# Altium integrated library TI_Logic_Flip-Flop,Latch,Register.IntLib: 2598 symbols (part 26 of 122)
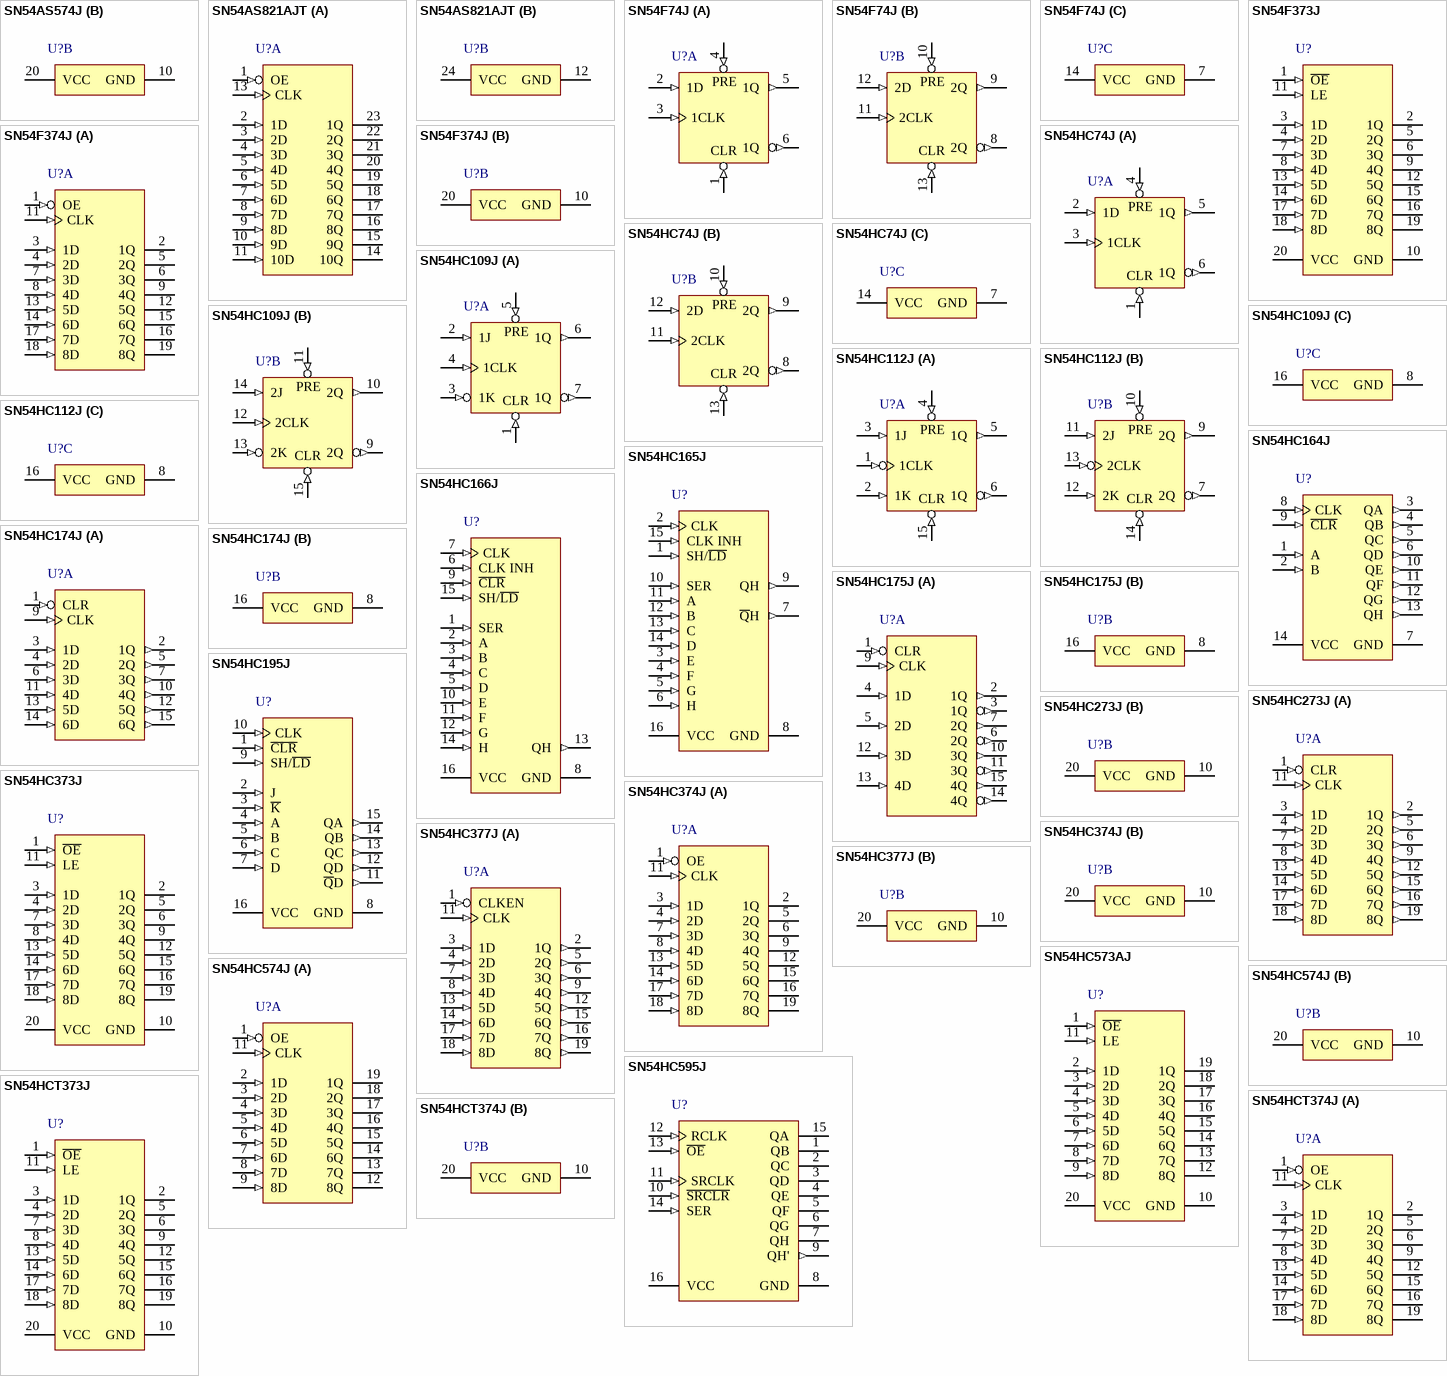
[diagram p164: symbols SN54AS574J to SN54HCT374J]

## SN54HC165J
designator U?
Parallel-Load 8-Bit Shift Registers, J0016A, TUBE; Generic Part Number: SN54HC165; Manufacturer: Texas Instruments; PartNumber: SN54HC165J; Technology Family: HC; VCC(Min)(V): 2; VCC(Max)(V): 6; F @ Nom Voltage(Max)(Mhz): 28; ICC @ Nom Voltage(Max)(mA): 0.08; tpd @ Nom Voltage(Max)(ns): 38; Output Drive (IOL/IOH)(Max)(mA): 5.2/-5.2; Input Type: CMOS; 3-State Output: No; Rating: Military; DatasheetVersion: SCLS116G; PackageReference: J0016A; Voltage(Nom)(V): 6; Output Type: CMOS; Operating Temperature Range(C): -55 to 125; ComponentLink1Description: Manufacturer URL; ComponentLink1URL: http://www.ti.com/; ComponentLink2Description: Datasheet; ComponentLink2URL: http://www.ti.com/lit/ds/symlink/sn54hc165.pdf; ComponentLink3Description: Package Specification; ComponentLink3URL: http://www.ti.com/lit/ml/mcer002d/mcer002d.pdf
footprint J0016A (DIP, 16-Leads, Body 21.35x7.2mm, Pitch 2.54mm)
pins: 1 SH/~{LD} (in), 2 CLK (in), 3 E (in), 4 F (in), 5 G (in), 6 H (in), 7 ~{Q}H (out), 8 GND (power), 9 QH (out), 10 SER (in), 11 A (in), 12 B (in), 13 C (in), 14 D (in), 15 CLK INH (in), 16 VCC (power)

## SN54HC166J
designator U?
Parallel-Load 8-Bit Shift Registers, J0016A, TUBE; Generic Part Number: SN54HC166; Manufacturer: Texas Instruments; PartNumber: SN54HC166J; Technology Family: HC; VCC(Min)(V): 2; VCC(Max)(V): 6; F @ Nom Voltage(Max)(Mhz): 28; ICC @ Nom Voltage(Max)(mA): 0.08; tpd @ Nom Voltage(Max)(ns): 32; Output Drive (IOL/IOH)(Max)(mA): 5.2/-5.2; Input Type: CMOS; 3-State Output: No; Rating: Military; DatasheetVersion: SCLS117D; PackageReference: J0016A; Voltage(Nom)(V): 6; Output Type: CMOS; Operating Temperature Range(C): -55 to 125; ComponentLink1Description: Manufacturer URL; ComponentLink1URL: http://www.ti.com/; ComponentLink2Description: Datasheet; ComponentLink2URL: http://www.ti.com/lit/ds/symlink/sn54hc166.pdf; ComponentLink3Description: Package Specification; ComponentLink3URL: http://www.ti.com/lit/ml/mcer002d/mcer002d.pdf
footprint J0016A (DIP, 16-Leads, Body 21.35x7.2mm, Pitch 2.54mm)
pins: 1 SER (in), 2 A (in), 3 B (in), 4 C (in), 5 D (in), 6 CLK INH (in), 7 CLK (in), 8 GND (power), 9 ~{CLR} (in), 10 E (in), 11 F (in), 12 G (in), 13 QH (out), 14 H (in), 15 SH/~{LD} (in), 16 VCC (power)

## SN54HC174J
designator U?
Hex D-type Flip-Flops With Clear, J0016A, TUBE; Generic Part Number: SN54HC174; Manufacturer: Texas Instruments; PartNumber: SN54HC174J; VCC(Min)(V): 2; VCC(Max)(V): 6; Output Type: CMOS; Output: 2S; ICC @ Nom Voltage(Max)(mA): 0.08; F @ Nom Voltage(Max)(Mhz): 28; Rating: Military; Technology Family: HC; Voltage(Nom)(V): 3.3,5; Schmitt Trigger: No; Output Drive (IOL/IOH)(Max)(mA): 5.2/-5.2; Output Logic: Non-inverted; tpd @ Nom Voltage(Max)(ns): 34; DatasheetVersion: SCLS119D; PackageReference: J0016A; Input Type: CMOS; Bits(#): 6; Operating Temperature Range(C): -55 to 125; 3-State Output: No; ComponentLink1Description: Manufacturer URL; ComponentLink1URL: http://www.ti.com/; ComponentLink2Description: Datasheet; ComponentLink2URL: http://www.ti.com/lit/ds/symlink/sn54hc174.pdf; ComponentLink3Description: Package Specification; ComponentLink3URL: http://www.ti.com/lit/ml/mcer002d/mcer002d.pdf
footprint J0016A (DIP, 16-Leads, Body 21.35x7.2mm, Pitch 2.54mm)
part A pins: 1 CLR (in), 2 1Q (out), 3 1D (in), 4 2D (in), 5 2Q (out), 6 3D (in), 7 3Q (out), 9 CLK (in), 10 4Q (out), 11 4D (in), 12 5Q (out), 13 5D (in), 14 6D (in), 15 6Q (out)
part B pins: 8 GND (power), 16 VCC (power)

## SN54HC175J
designator U?
Quadruple D-type Flip-Flops With Clear, J0016A, TUBE; Generic Part Number: SN54HC175; Manufacturer: Texas Instruments; PartNumber: SN54HC175J; VCC(Min)(V): 2; VCC(Max)(V): 6; Output Type: CMOS; Output: 2S; ICC @ Nom Voltage(Max)(mA): 0.08; Bits(#): 4; F @ Nom Voltage(Max)(Mhz): 28; Rating: Military; Technology Family: HC; Voltage(Nom)(V): 3.3,5; Schmitt Trigger: No; Output Drive (IOL/IOH)(Max)(mA): 5.2/-5.2; Output Logic: Inverted,Non-inverted; tpd @ Nom Voltage(Max)(ns): 32; DatasheetVersion: SCLS299D; PackageReference: J0016A; Input Type: CMOS; Operating Temperature Range(C): -55 to 125; 3-State Output: No; ComponentLink1Description: Manufacturer URL; ComponentLink1URL: http://www.ti.com/; ComponentLink2Description: Datasheet; ComponentLink2URL: http://www.ti.com/lit/ds/symlink/sn54hc175.pdf; ComponentLink3Description: Package Specification; ComponentLink3URL: http://www.ti.com/lit/ml/mcer002d/mcer002d.pdf
footprint J0016A (DIP, 16-Leads, Body 21.35x7.2mm, Pitch 2.54mm)
part A pins: 1 CLR (in), 2 1Q (out), 3 1Q (out), 4 1D (in), 5 2D (in), 6 2Q (out), 7 2Q (out), 9 CLK (in), 10 3Q (out), 11 3Q (out), 12 3D (in), 13 4D (in), 14 4Q (out), 15 4Q (out)
part B pins: 8 GND (power), 16 VCC (power)

## SN54HC195J
designator U?
4-Bit Parallel-Access Shift Registers, J0016A, TUBE; Generic Part Number: SN54HC195; Manufacturer: Texas Instruments; PartNumber: SN54HC195J; Technology Family: HC; Rating: Military; DatasheetVersion: SCLS124A; PackageReference: J0016A; Operating Temperature Range(C): -55 to 125; ComponentLink1Description: Manufacturer URL; ComponentLink1URL: http://www.ti.com/; ComponentLink2Description: Datasheet; ComponentLink2URL: http://www.ti.com/lit/ds/symlink/sn54hc195.pdf; ComponentLink3Description: Package Specification; ComponentLink3URL: http://www.ti.com/lit/ml/mcer002d/mcer002d.pdf
footprint J0016A (DIP, 16-Leads, Body 21.35x7.2mm, Pitch 2.54mm)
pins: 1 ~{CLR} (in), 2 J (in), 3 ~{K} (in), 4 A (in), 5 B (in), 6 C (in), 7 D (in), 8 GND (power), 9 SH/~{LD} (in), 10 CLK (in), 11 ~{Q}D (out), 12 QD (out), 13 QC (out), 14 QB (out), 15 QA (out), 16 VCC (power)

## SN54HC273J
designator U?
Octal D-type Flip-Flops With Clear, J0020A, TUBE; Generic Part Number: SN54HC273; Manufacturer: Texas Instruments; PartNumber: SN54HC273J; VCC(Min)(V): 2; VCC(Max)(V): 6; Output Type: CMOS; Output: 2S; ICC @ Nom Voltage(Max)(mA): 0.08; Bits(#): 8; F @ Nom Voltage(Max)(Mhz): 28; Rating: Military; Technology Family: HC; Voltage(Nom)(V): 3.3,5; Schmitt Trigger: No; Output Drive (IOL/IOH)(Max)(mA): 5.2/-5.2; Output Logic: Non-inverted; tpd @ Nom Voltage(Max)(ns): 34; DatasheetVersion: SCLS136D; PackageReference: J0020A; Input Type: CMOS; Operating Temperature Range(C): -55 to 125; 3-State Output: No; ComponentLink1Description: Manufacturer URL; ComponentLink1URL: http://www.ti.com/; ComponentLink2Description: Datasheet; ComponentLink2URL: http://www.ti.com/lit/ds/symlink/sn54hc273.pdf; ComponentLink3Description: Package Specification; ComponentLink3URL: http://www.ti.com/lit/ml/mcer002d/mcer002d.pdf
footprint J0020A (DIP, 20-Leads, Body 26.9x7.2mm, Pitch 2.54mm)
part A pins: 1 CLR (in) "Clear Pin", 2 1Q (out) "1Q Output", 3 1D (in) "1D Input", 4 2D (in) "2D Input", 5 2Q (out) "2Q Output", 6 3Q (out) "3Q Output", 7 3D (in) "3D Input", 8 4D (in) "4D Input", 9 4Q (out) "4Q Output", 11 CLK (in) "Clock Pin", 12 5Q (out) "5Q Output", 13 5D (in) "5D Input", 14 6D (in) "6D Input", 15 6Q (out) "6Q Output", 16 7Q (out) "7Q Output", 17 7D (in) "7D Input", 18 8D (in) "8D Input", 19 8Q (out) "8Q Output"
part B pins: 10 GND (power) "Ground Pin", 20 VCC (power) "Power Pin"

## SN54HC373J
designator U?
Octal D-type Transparent Latches With 3-State Outputs, J0020A, TUBE; Generic Part Number: SN54HC373; Manufacturer: Texas Instruments; PartNumber: SN54HC373J; VCC(Min)(V): 2; VCC(Max)(V): 6; Output Type: CMOS; Logic: True; ICC @ Nom Voltage(Max)(mA): 0.08; Bits(#): 8; F @ Nom Voltage(Max)(Mhz): 28; Rating: Military; Technology Family: HC; Schmitt Trigger: No; Output Drive (IOL/IOH)(Max)(mA): 7.8/-7.8; Output Logic: Non-inverted; 3-State Output: Yes; tpd @ Nom Voltage(Max)(ns): 32; DatasheetVersion: SCLS140D; PackageReference: J0020A; Input Type: CMOS; Operating Temperature Range(C): -55 to 125; ComponentLink1Description: Manufacturer URL; ComponentLink1URL: http://www.ti.com/; ComponentLink2Description: Datasheet; ComponentLink2URL: http://www.ti.com/lit/ds/symlink/sn54hc373.pdf; ComponentLink3Description: Package Specification; ComponentLink3URL: http://www.ti.com/lit/ml/mcer002d/mcer002d.pdf
footprint J0020A (DIP, 20-Leads, Body 26.9x7.2mm, Pitch 2.54mm)
pins: 1 ~{OE} (in) "Output Enable", 2 1Q (hiz) "1Q Output", 3 1D (in) "1D Input", 4 2D (in) "2D Input", 5 2Q (hiz) "2Q Output", 6 3Q (hiz) "3Q Output", 7 3D (in) "3D Input", 8 4D (in) "4D Input", 9 4Q (hiz) "4Q Output", 10 GND (power) "Ground Pin", 11 LE (in) "Latch Enable", 12 5Q (hiz) "5Q Output", 13 5D (in) "5D Input", 14 6D (in) "6D Input", 15 6Q (hiz) "6Q Output", 16 7Q (hiz) "7Q Output", 17 7D (in) "7D Input", 18 8D (in) "8D Input", 19 8Q (hiz) "8Q Output", 20 VCC (power) "Power Pin"

## SN54HC374J
designator U?
Octal D-type Edge-Triggered Flip-Flops With 3-State Outputs, J0020A, TUBE; Generic Part Number: SN54HC374; Manufacturer: Texas Instruments; PartNumber: SN54HC374J; VCC(Min)(V): 2; VCC(Max)(V): 6; Output Type: CMOS; ICC @ Nom Voltage(Max)(mA): 0.08; Bits(#): 8; F @ Nom Voltage(Max)(Mhz): 28; Rating: Military; Technology Family: HC; Voltage(Nom)(V): 3.3,5; Schmitt Trigger: No; Output Drive (IOL/IOH)(Max)(mA): 7.8/-7.8; Output Logic: Non-inverted; 3-State Output: Yes; tpd @ Nom Voltage(Max)(ns): 38; DatasheetVersion: SCLS141E; PackageReference: J0020A; Input Type: CMOS; Operating Temperature Range(C): -55 to 125; ComponentLink1Description: Manufacturer URL; ComponentLink1URL: http://www.ti.com/; ComponentLink2Description: Datasheet; ComponentLink2URL: http://www.ti.com/lit/ds/symlink/sn54hc374.pdf; ComponentLink3Description: Package Specification; ComponentLink3URL: http://www.ti.com/lit/ml/mcer002d/mcer002d.pdf
footprint J0020A (DIP, 20-Leads, Body 26.9x7.2mm, Pitch 2.54mm)
part A pins: 1 OE (in), 2 1Q (hiz), 3 1D (in), 4 2D (in), 5 2Q (hiz), 6 3Q (hiz), 7 3D (in), 8 4D (in), 9 4Q (hiz), 11 CLK (in), 12 5Q (hiz), 13 5D (in), 14 6D (in), 15 6Q (hiz), 16 7Q (hiz), 17 7D (in), 18 8D (in), 19 8Q (hiz)
part B pins: 10 GND (power), 20 VCC (power)

## SN54HC377J
designator U?
Octal, Hex, And Quad D-type Flip-Flops With Clock Enable, J0020A, TUBE; Generic Part Number: SN54HC377; Manufacturer: Texas Instruments; PartNumber: SN54HC377J; VCC(Min)(V): 2; VCC(Max)(V): 6; Output Type: CMOS; Output: 2S; ICC @ Nom Voltage(Max)(mA): 0.08; Bits(#): 8; F @ Nom Voltage(Max)(Mhz): 28; Rating: Military; Technology Family: HC; Voltage(Nom)(V): 3.3,5; Schmitt Trigger: No; Output Drive (IOL/IOH)(Max)(mA): 5.2/-5.2; Output Logic: Non-inverted; tpd @ Nom Voltage(Max)(ns): 34; DatasheetVersion: SCLS307B; PackageReference: J0020A; Input Type: CMOS; Operating Temperature Range(C): -55 to 125; 3-State Output: No; ComponentLink1Description: Manufacturer URL; ComponentLink1URL: http://www.ti.com/; ComponentLink2Description: Datasheet; ComponentLink2URL: http://www.ti.com/lit/ds/symlink/sn54hc377.pdf; ComponentLink3Description: Package Specification; ComponentLink3URL: http://www.ti.com/lit/ml/mcer002d/mcer002d.pdf
footprint J0020A (DIP, 20-Leads, Body 26.9x7.2mm, Pitch 2.54mm)
part A pins: 1 CLKEN (in), 2 1Q (out), 3 1D (in), 4 2D (in), 5 2Q (out), 6 3Q (out), 7 3D (in), 8 4D (in), 9 4Q (out), 11 CLK (in), 12 5Q (out), 13 5D (in), 14 6D (in), 15 6Q (out), 16 7Q (out), 17 7D (in), 18 8D (in), 19 8Q (out)
part B pins: 10 GND (power), 20 VCC (power)

## SN54HC573AJ
designator U?
Octal D-type Transparent Latches With 3-State Outputs, J0020A, TUBE; Generic Part Number: SN54HC573A; Manufacturer: Texas Instruments; PartNumber: SN54HC573AJ; VCC(Min)(V): 2; VCC(Max)(V): 6; Output Type: CMOS; Logic: True; ICC @ Nom Voltage(Max)(mA): 0.08; Bits(#): 8; F @ Nom Voltage(Max)(Mhz): 28; Rating: Military; Technology Family: HC; Schmitt Trigger: No; Output Drive (IOL/IOH)(Max)(mA): 7.8/-7.8; Output Logic: Non-inverted; 3-State Output: Yes; tpd @ Nom Voltage(Max)(ns): 38; DatasheetVersion: SCLS147E; PackageReference: J0020A; Input Type: CMOS; Operating Temperature Range(C): -55 to 125; ComponentLink1Description: Manufacturer URL; ComponentLink1URL: http://www.ti.com/; ComponentLink2Description: Datasheet; ComponentLink2URL: http://www.ti.com/lit/ds/symlink/sn54hc573a.pdf; ComponentLink3Description: Package Specification; ComponentLink3URL: http://www.ti.com/lit/ml/mcer002d/mcer002d.pdf
footprint J0020A (DIP, 20-Leads, Body 26.9x7.2mm, Pitch 2.54mm)
pins: 1 ~{OE} (in), 2 1D (in), 3 2D (in), 4 3D (in), 5 4D (in), 6 5D (in), 7 6D (in), 8 7D (in), 9 8D (in), 10 GND (power), 11 LE (in), 12 8Q (hiz), 13 7Q (hiz), 14 6Q (hiz), 15 5Q (hiz), 16 4Q (hiz), 17 3Q (hiz), 18 2Q (hiz), 19 1Q (hiz), 20 VCC (power)

## SN54HC574J
designator U?
Octal D-type Edge-Triggered Flip-Flops With 3-State Outputs, J0020A, TUBE; Generic Part Number: SN54HC574; Manufacturer: Texas Instruments; PartNumber: SN54HC574J; VCC(Min)(V): 2; VCC(Max)(V): 6; Output Type: CMOS; ICC @ Nom Voltage(Max)(mA): 0.08; Bits(#): 8; F @ Nom Voltage(Max)(Mhz): 28; Rating: Military; Technology Family: HC; Voltage(Nom)(V): 3.3,5; Schmitt Trigger: No; Output Drive (IOL/IOH)(Max)(mA): 7.8/-7.8; Output Logic: Non-inverted; 3-State Output: Yes; tpd @ Nom Voltage(Max)(ns): 38; DatasheetVersion: SCLS148F; PackageReference: J0020A; Input Type: CMOS; Operating Temperature Range(C): -55 to 125; ComponentLink1Description: Manufacturer URL; ComponentLink1URL: http://www.ti.com/; ComponentLink2Description: Datasheet; ComponentLink2URL: http://www.ti.com/lit/ds/symlink/sn54hc574.pdf; ComponentLink3Description: Package Specification; ComponentLink3URL: http://www.ti.com/lit/ml/mcer002d/mcer002d.pdf
footprint J0020A (DIP, 20-Leads, Body 26.9x7.2mm, Pitch 2.54mm)
part A pins: 1 OE (in), 2 1D (in), 3 2D (in), 4 3D (in), 5 4D (in), 6 5D (in), 7 6D (in), 8 7D (in), 9 8D (in), 11 CLK (in), 12 8Q (hiz), 13 7Q (hiz), 14 6Q (hiz), 15 5Q (hiz), 16 4Q (hiz), 17 3Q (hiz), 18 2Q (hiz), 19 1Q (hiz)
part B pins: 10 GND (power), 20 VCC (power)

## SN54HC595J
designator U?
8-Bit Shift Registers With 3-State Output Registers, J0016A, TUBE; Generic Part Number: SN54HC595; Manufacturer: Texas Instruments; PartNumber: SN54HC595J; Technology Family: HC; VCC(Min)(V): 2; VCC(Max)(V): 6; F @ Nom Voltage(Max)(Mhz): 28; ICC @ Nom Voltage(Max)(mA): 0.08; tpd @ Nom Voltage(Max)(ns): 34; Output Drive (IOL/IOH)(Max)(mA): 7.8/-7.8; Input Type: CMOS; 3-State Output: Yes; Rating: Military; DatasheetVersion: SCLS041H; PackageReference: J0016A; Voltage(Nom)(V): 6; Output Type: CMOS; Operating Temperature Range(C): -55 to 125; ComponentLink1Description: Manufacturer URL; ComponentLink1URL: http://www.ti.com/; ComponentLink2Description: Datasheet; ComponentLink2URL: http://www.ti.com/lit/ds/symlink/sn54hc595.pdf; ComponentLink3Description: Package Specification; ComponentLink3URL: http://www.ti.com/lit/ml/mcer002d/mcer002d.pdf
footprint J0016A (DIP, 16-Leads, Body 21.35x7.2mm, Pitch 2.54mm)
pins: 1 QB (hiz) "QB Output", 2 QC (hiz) "QC Output", 3 QD (hiz) "QD Output", 4 QE (hiz) "QE Output", 5 QF (hiz) "QF Output", 6 QG (hiz) "QG Output", 7 QH (hiz) "QH Output", 8 GND (power) "Ground Pin", 9 QH' (out) "QH' Output", 10 ~{SRCLR} (in) "S\R\C\L\R\ Input", 11 SRCLK (in) "SRCLK Input", 12 RCLK (in) "RCLK Input", 13 ~{OE} (in) "Output Enable Pin", 14 SER (in) "SER Input", 15 QA (hiz) "QA Output", 16 VCC (power) "Power Pin"

## SN54HCT373J
designator U?
Octal D-type Transparent Latches With 3-State Outputs, J0020A, TUBE; Generic Part Number: SN54HCT373; Manufacturer: Texas Instruments; PartNumber: SN54HCT373J; VCC(Min)(V): 4.5; VCC(Max)(V): 5.5; Output Type: CMOS; Logic: True; ICC @ Nom Voltage(Max)(mA): 0.08; Input Type: TTL; Bits(#): 8; F @ Nom Voltage(Max)(Mhz): 25; Rating: Military; Technology Family: HCT; Schmitt Trigger: No; Output Drive (IOL/IOH)(Max)(mA): 6/-6; Output Logic: Non-inverted; 3-State Output: Yes; tpd @ Nom Voltage(Max)(ns): 40; DatasheetVersion: SCLS009D; PackageReference: J0020A; Operating Temperature Range(C): -55 to 125; ComponentLink1Description: Manufacturer URL; ComponentLink1URL: http://www.ti.com/; ComponentLink2Description: Datasheet; ComponentLink2URL: http://www.ti.com/lit/ds/symlink/sn54hct373.pdf; ComponentLink3Description: Package Specification; ComponentLink3URL: http://www.ti.com/lit/ml/mcer002d/mcer002d.pdf
footprint J0020A (DIP, 20-Leads, Body 26.9x7.2mm, Pitch 2.54mm)
pins: 1 ~{OE} (in) "Output Enable", 2 1Q (hiz) "1Q Output", 3 1D (in) "1D Input", 4 2D (in) "2D Input", 5 2Q (hiz) "2Q Output", 6 3Q (hiz) "3Q Output", 7 3D (in) "3D Input", 8 4D (in) "4D Input", 9 4Q (hiz) "4Q Output", 10 GND (power) "Ground Pin", 11 LE (in) "Latch Enable", 12 5Q (hiz) "5Q Output", 13 5D (in) "5D Input", 14 6D (in) "6D Input", 15 6Q (hiz) "6Q Output", 16 7Q (hiz) "7Q Output", 17 7D (in) "7D Input", 18 8D (in) "8D Input", 19 8Q (hiz) "8Q Output", 20 VCC (power) "Power Pin"

## SN54HCT374J
designator U?
Octal D-type Edge-Triggered Flip-Flops with 3-State Outputs, J0020A, TUBE; Generic Part Number: SN54HCT374; Manufacturer: Texas Instruments; PartNumber: SN54HCT374J; VCC(Min)(V): 4.5; VCC(Max)(V): 5.5; Output Type: CMOS; ICC @ Nom Voltage(Max)(mA): 0.08; Input Type: TTL; Bits(#): 8; F @ Nom Voltage(Max)(Mhz): 25; Rating: Military; Technology Family: HCT; Schmitt Trigger: No; Output Drive (IOL/IOH)(Max)(mA): 6/-6; Output Logic: Non-inverted; 3-State Output: Yes; tpd @ Nom Voltage(Max)(ns): 41; DatasheetVersion: SCLS005D; PackageReference: J0020A; Operating Temperature Range(C): -55 to 125; ComponentLink1Description: Manufacturer URL; ComponentLink1URL: http://www.ti.com/; ComponentLink2Description: Datasheet; ComponentLink2URL: http://www.ti.com/lit/ds/symlink/sn54hct374.pdf; ComponentLink3Description: Package Specification; ComponentLink3URL: http://www.ti.com/lit/ml/mcer002d/mcer002d.pdf
footprint J0020A (DIP, 20-Leads, Body 26.9x7.2mm, Pitch 2.54mm)
part A pins: 1 OE (in), 2 1Q (hiz), 3 1D (in), 4 2D (in), 5 2Q (hiz), 6 3Q (hiz), 7 3D (in), 8 4D (in), 9 4Q (hiz), 11 CLK (in), 12 5Q (hiz), 13 5D (in), 14 6D (in), 15 6Q (hiz), 16 7Q (hiz), 17 7D (in), 18 8D (in), 19 8Q (hiz)
part B pins: 10 GND (power), 20 VCC (power)

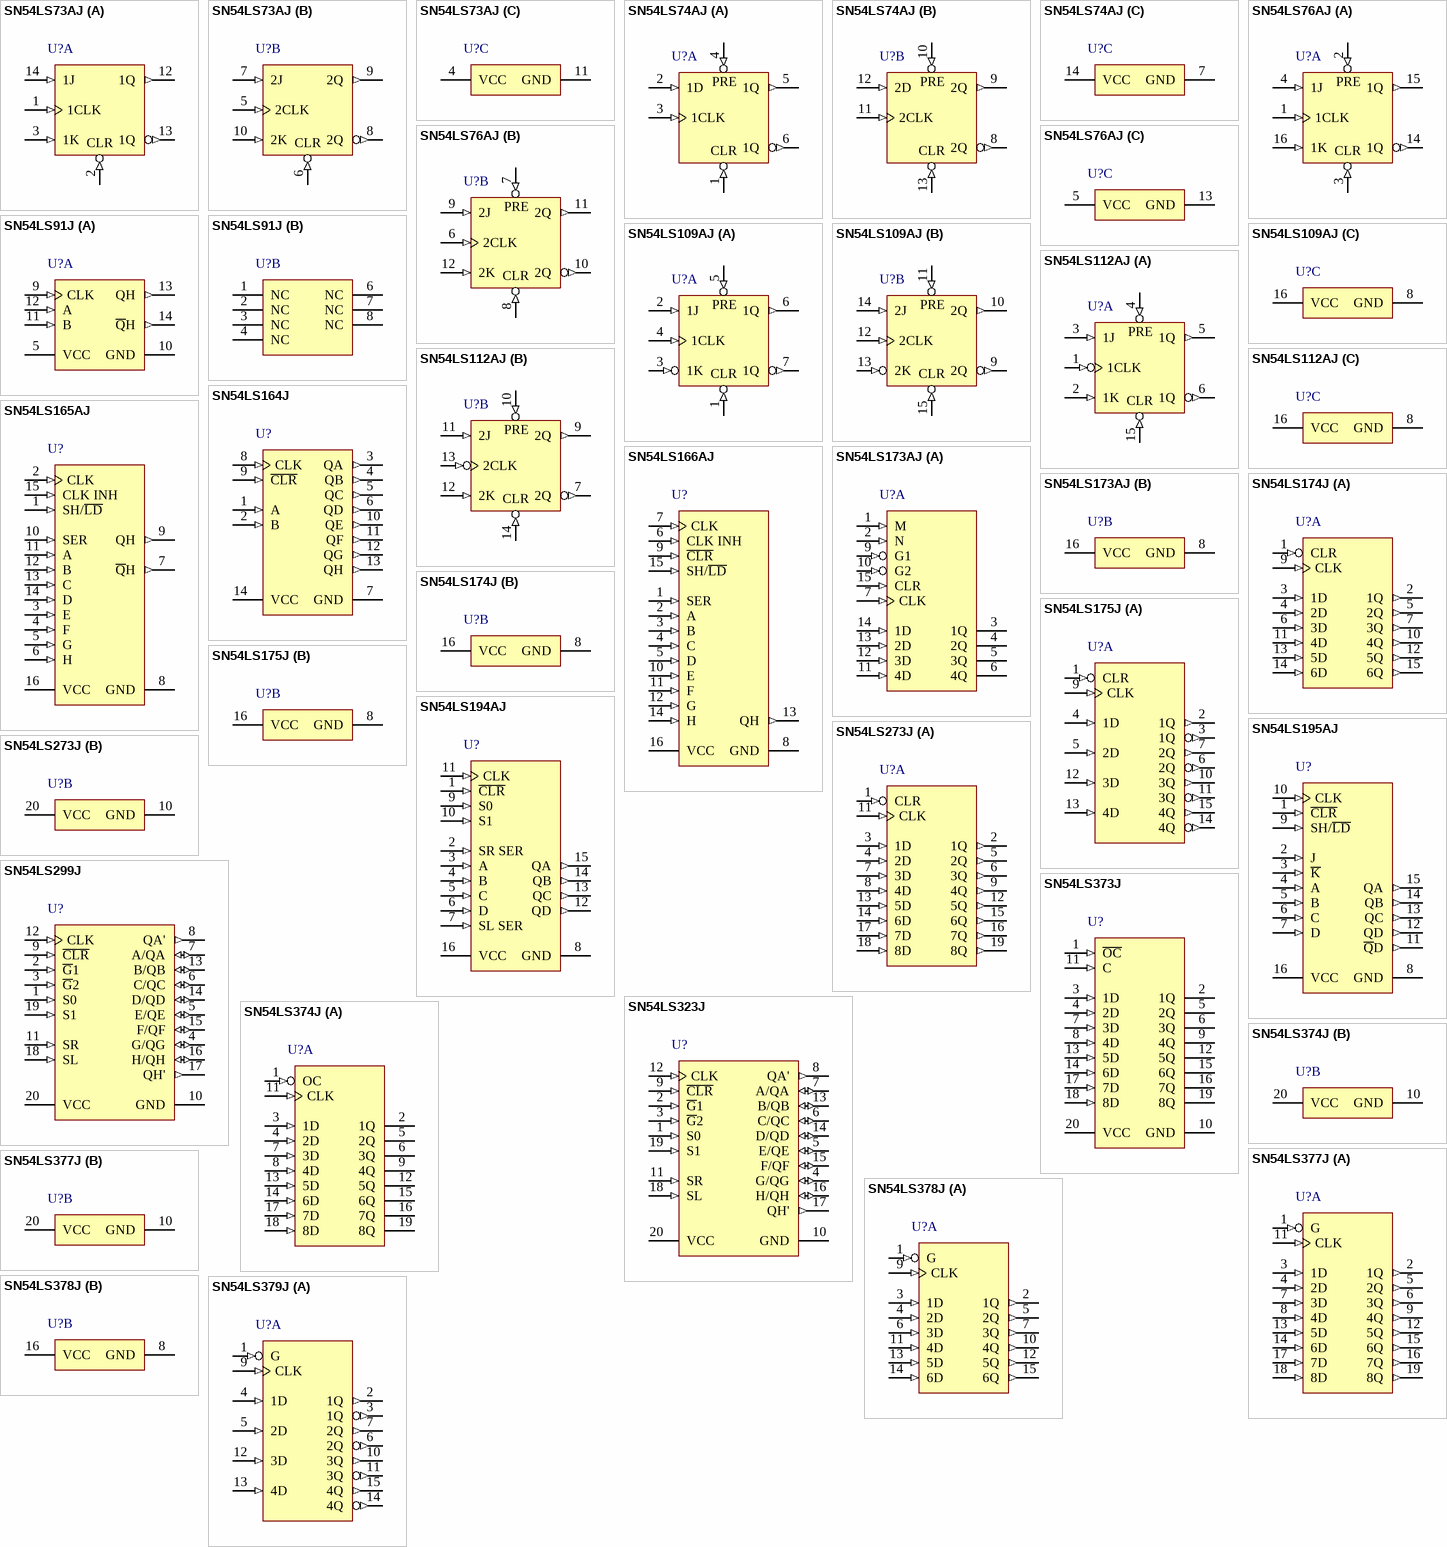
[diagram p38: symbols SN54LS73AJ to SN54LS379J]

## SN54LS73AJ
designator U?
Dual J-K Flip-Flops With Clear and 3-state Outputs, J0014A, TUBE; Generic Part Number: SN54LS73A; Manufacturer: Texas Instruments; PartNumber: SN54LS73AJ; Output Type: TTL; Output: 2S; Bits(#): 2; Rating: Military; Technology Family: LS; Schmitt Trigger: No; DatasheetVersion: SDLS118; PackageReference: J0014A; Input Type: TTL; Operating Temperature Range(C): -55 to 125; ComponentLink1Description: Manufacturer URL; ComponentLink1URL: http://www.ti.com/; ComponentLink2Description: Datasheet; ComponentLink2URL: http://www.ti.com/lit/ds/symlink/sn54ls73a.pdf; ComponentLink3Description: Package Specification; ComponentLink3URL: http://www.ti.com/lit/ml/mcer002d/mcer002d.pdf
footprint J0014A (DIP, 14-Leads, Body 19.95x7.2mm, Pitch 2.54mm)
part A pins: 1 1CLK (in), 2 1~{CLR} (in), 3 1K (in), 12 1Q (out), 13 1Q (out), 14 1J (in)
part B pins: 5 2CLK (in), 6 2~{CLR} (in), 7 2J (in), 8 2Q (out), 9 2Q (out), 10 2K (in)
part C pins: 4 VCC (power), 11 GND (power)
part A text: CLR
part B text: CLR

## SN54LS74AJ
designator U?
Dual D-type Positive-Edge-Triggered Flip-Flops With Preset And Clear, J0014A, TUBE; Generic Part Number: SN54LS74A; Manufacturer: Texas Instruments; PartNumber: SN54LS74AJ; VCC(Min)(V): 4.75; VCC(Max)(V): 5.25; Output Type: TTL; Output: 3S; ICC @ Nom Voltage(Max)(mA): 8; Bits(#): 2; F @ Nom Voltage(Max)(Mhz): 35; Rating: Military; Technology Family: LS; Schmitt Trigger: No; Output Drive (IOL/IOH)(Max)(mA): 8/-0.4; Output Logic: Inverted,Non-inverted; tpd @ Nom Voltage(Max)(ns): 40; DatasheetVersion: SDLS119; PackageReference: J0014A; Input Type: TTL; Operating Temperature Range(C): -55 to 125; 3-State Output: No; ComponentLink1Description: Manufacturer URL; ComponentLink1URL: http://www.ti.com/; ComponentLink2Description: Datasheet; ComponentLink2URL: http://www.ti.com/lit/ds/symlink/sn54ls74a.pdf; ComponentLink3Description: Package Specification; ComponentLink3URL: http://www.ti.com/lit/ml/mcer002d/mcer002d.pdf
footprint J0014A (DIP, 14-Leads, Body 19.95x7.2mm, Pitch 2.54mm)
part A pins: 1 1~{CLR} (in), 2 1D (in), 3 1CLK (in), 4 1~{PRE} (in), 5 1Q (out), 6 1Q (out)
part B pins: 8 2Q (out), 9 2Q (out), 10 2~{PRE} (in), 11 2CLK (in), 12 2D (in), 13 2~{CLR} (in)
part C pins: 7 GND (power), 14 VCC (power)
part A text: PRE; CLR
part B text: PRE; CLR

## SN54LS76AJ
designator U?
Dual J-K Flip-Flops With Preset And Clear, J0016A, TUBE; Generic Part Number: SN54LS76A; Manufacturer: Texas Instruments; PartNumber: SN54LS76AJ; VCC(Min)(V): 4.5; VCC(Max)(V): 5.5; Output Type: TTL; Output: 2S; Bits(#): 2; Rating: Military; Technology Family: LS; Schmitt Trigger: No; DatasheetVersion: SDLS121; PackageReference: J0016A; Input Type: TTL; Operating Temperature Range(C): -55 to 125; ComponentLink1Description: Manufacturer URL; ComponentLink1URL: http://www.ti.com/; ComponentLink2Description: Datasheet; ComponentLink2URL: http://www.ti.com/lit/ds/symlink/sn54ls76a.pdf; ComponentLink3Description: Package Specification; ComponentLink3URL: http://www.ti.com/lit/ml/mcer002d/mcer002d.pdf
footprint J0016A (DIP, 16-Leads, Body 21.35x7.2mm, Pitch 2.54mm)
part A pins: 1 1CLK (in), 2 1~{PRE} (in), 3 1~{CLR} (in), 4 1J (in), 14 1Q (out), 15 1Q (out), 16 1K (in)
part B pins: 6 2CLK (in), 7 2~{PRE} (in), 8 2~{CLR} (in), 9 2J (in), 10 2Q (out), 11 2Q (out), 12 2K (in)
part C pins: 5 VCC (power), 13 GND (power)
part A text: PRE; CLR
part B text: PRE; CLR

## SN54LS91J
designator U?
8-Bit Shift Registers, J0014A, TUBE; Generic Part Number: SN54LS91; Manufacturer: Texas Instruments; PartNumber: SN54LS91J; Technology Family: LS; VCC(Min)(V): 4.5; VCC(Max)(V): 5.5; Output Type: TTL; Rating: Military; DatasheetVersion: SDLS126; PackageReference: J0014A; Operating Temperature Range(C): -55 to 125; ComponentLink1Description: Manufacturer URL; ComponentLink1URL: http://www.ti.com/; ComponentLink2Description: Datasheet; ComponentLink2URL: http://www.ti.com/lit/ds/symlink/sn54ls91.pdf; ComponentLink3Description: Package Specification; ComponentLink3URL: http://www.ti.com/lit/ml/mcer002d/mcer002d.pdf
footprint J0014A (DIP, 14-Leads, Body 19.95x7.2mm, Pitch 2.54mm)
part A pins: 5 VCC (power), 9 CLK (in), 10 GND (power), 11 B (in), 12 A (in), 13 QH (out), 14 ~{Q}H (out)
part B pins: 1 NC, 2 NC, 3 NC, 4 NC, 6 NC, 7 NC, 8 NC

## SN54LS109AJ
designator U?
Dual J-K Positive-Edge-Triggered Flip-Flops With Preset And Clear, J0016A, TUBE; Generic Part Number: SN54LS109A; Manufacturer: Texas Instruments; PartNumber: SN54LS109AJ; VCC(Min)(V): 4.5; VCC(Max)(V): 5.5; Output Type: TTL; Output: 2S; Bits(#): 2; Rating: Military; Technology Family: LS; Schmitt Trigger: No; DatasheetVersion: SDLS037; PackageReference: J0016A; Input Type: TTL; Operating Temperature Range(C): -55 to 125; ComponentLink1Description: Manufacturer URL; ComponentLink1URL: http://www.ti.com/; ComponentLink2Description: Datasheet; ComponentLink2URL: http://www.ti.com/lit/ds/symlink/sn54ls109a.pdf; ComponentLink3Description: Package Specification; ComponentLink3URL: http://www.ti.com/lit/ml/mcer002d/mcer002d.pdf
footprint J0016A (DIP, 16-Leads, Body 21.35x7.2mm, Pitch 2.54mm)
part A pins: 1 1~{CLR} (in), 2 1J (in), 3 1K (in), 4 1CLK (in), 5 1~{PRE} (in), 6 1Q (out), 7 1Q (out)
part B pins: 9 2Q (out), 10 2Q (out), 11 2~{PRE} (in), 12 2CLK (in), 13 2K (in), 14 2J (in), 15 2~{CLR} (in)
part C pins: 8 GND (power), 16 VCC (power)
part A text: PRE; CLR
part B text: PRE; CLR

## SN54LS112AJ
designator U?
Dual J-K Negative-Edge-Triggered Flip-Flops With Preset And Clear, J0016A, TUBE; Generic Part Number: SN54LS112A; Manufacturer: Texas Instruments; PartNumber: SN54LS112AJ; VCC(Min)(V): 4.5; VCC(Max)(V): 5.5; Output Type: TTL; Output: 2S; Bits(#): 2; Rating: Military; Technology Family: LS; Schmitt Trigger: No; DatasheetVersion: SDLS011; PackageReference: J0016A; Input Type: TTL; Operating Temperature Range(C): -55 to 125; ComponentLink1Description: Manufacturer URL; ComponentLink1URL: http://www.ti.com/; ComponentLink2Description: Datasheet; ComponentLink2URL: http://www.ti.com/lit/ds/symlink/sn54ls112a.pdf; ComponentLink3Description: Package Specification; ComponentLink3URL: http://www.ti.com/lit/ml/mcer002d/mcer002d.pdf
footprint J0016A (DIP, 16-Leads, Body 21.35x7.2mm, Pitch 2.54mm)
part A pins: 1 1CLK (in), 2 1K (in), 3 1J (in), 4 1~{PRE} (in), 5 1Q (out), 6 1Q (out), 15 1~{CLR} (in)
part B pins: 7 2Q (out), 9 2Q (out), 10 2~{PRE} (in), 11 2J (in), 12 2K (in), 13 2CLK (in), 14 2~{CLR} (in)
part C pins: 8 GND (power), 16 VCC (power)
part A text: PRE; CLR
part B text: PRE; CLR

## SN54LS164J
designator U?
8-Bit Parallel-Out Serial Shift Registers, J0014A, TUBE; Generic Part Number: SN54LS164; Manufacturer: Texas Instruments; PartNumber: SN54LS164J; Technology Family: LS; VCC(Min)(V): 4.75; VCC(Max)(V): 5.25; Voltage(Nom)(V): 5; F @ Nom Voltage(Max)(Mhz): 35; ICC @ Nom Voltage(Max)(mA): 27; tpd @ Nom Voltage(Max)(ns): 32; Output Drive (IOL/IOH)(Max)(mA): 7.8/-7.8; Input Type: TTL; 3-State Output: No; Rating: Military; PackageReference: J0014A; Output Type: TTL; Operating Temperature Range(C): -55 to 125; ComponentLink1Description: Manufacturer URL; ComponentLink1URL: http://www.ti.com/; ComponentLink2Description: Datasheet; ComponentLink2URL: http://www.ti.com/lit/ds/symlink/sn54ls164.pdf; ComponentLink3Description: Package Specification; ComponentLink3URL: http://www.ti.com/lit/ml/mcer002d/mcer002d.pdf
footprint J0014A (DIP, 14-Leads, Body 19.95x7.2mm, Pitch 2.54mm)
pins: 1 A (in) "Serial input A", 2 B (in) "Serial input B", 3 QA (out) "Output A", 4 QB (out) "Output B", 5 QC (out) "Output C", 6 QD (out) "Output D", 7 GND (power) "Ground pin", 8 CLK (in) "Storage clock", 9 ~{CLR} (in) "Storage clear", 10 QE (out) "Output E", 11 QF (out) "Output F", 12 QG (out) "Output G", 13 QH (out) "Output H", 14 VCC (power) "Power pin"

## SN54LS165AJ
designator U?
Parallel-Load 8-Bit Shift Registers, J0016A, TUBE; Generic Part Number: SN54LS165A; Manufacturer: Texas Instruments; PartNumber: SN54LS165AJ; Technology Family: LS; VCC(Min)(V): 4.75; VCC(Max)(V): 5.25; Voltage(Nom)(V): 5; F @ Nom Voltage(Max)(Mhz): 35; ICC @ Nom Voltage(Max)(mA): 30; tpd @ Nom Voltage(Max)(ns): 25; Output Drive (IOL/IOH)(Max)(mA): 8/-0.4; Input Type: TTL; 3-State Output: No; Rating: Military; DatasheetVersion: SDLS062D; PackageReference: J0016A; Output Type: TTL; Operating Temperature Range(C): -55 to 125; ComponentLink1Description: Manufacturer URL; ComponentLink1URL: http://www.ti.com/; ComponentLink2Description: Datasheet; ComponentLink2URL: http://www.ti.com/lit/ds/symlink/sn54ls165a.pdf; ComponentLink3Description: Package Specification; ComponentLink3URL: http://www.ti.com/lit/ml/mcer002d/mcer002d.pdf
footprint J0016A (DIP, 16-Leads, Body 21.35x7.2mm, Pitch 2.54mm)
pins: 1 SH/~{LD} (in), 2 CLK (in), 3 E (in), 4 F (in), 5 G (in), 6 H (in), 7 ~{Q}H (out), 8 GND (power), 9 QH (out), 10 SER (in), 11 A (in), 12 B (in), 13 C (in), 14 D (in), 15 CLK INH (in), 16 VCC (power)

## SN54LS166AJ
designator U?
Parallel-Load 8-Bit Shift Registers, J0016A, TUBE; Generic Part Number: SN54LS166A; Manufacturer: Texas Instruments; PartNumber: SN54LS166AJ; Technology Family: LS; VCC(Min)(V): 4.75; VCC(Max)(V): 5.25; Voltage(Nom)(V): 5; F @ Nom Voltage(Max)(Mhz): 35; ICC @ Nom Voltage(Max)(mA): 32; tpd @ Nom Voltage(Max)(ns): 25; Output Drive (IOL/IOH)(Max)(mA): 8/-0.4; Input Type: TTL; 3-State Output: No; Rating: Military; PackageReference: J0016A; Output Type: TTL; Operating Temperature Range(C): -55 to 125; ComponentLink1Description: Manufacturer URL; ComponentLink1URL: http://www.ti.com/; ComponentLink2Description: Datasheet; ComponentLink2URL: http://www.ti.com/lit/ds/symlink/sn54ls166a.pdf; ComponentLink3Description: Package Specification; ComponentLink3URL: http://www.ti.com/lit/ml/mcer002d/mcer002d.pdf
footprint J0016A (DIP, 16-Leads, Body 21.35x7.2mm, Pitch 2.54mm)
pins: 1 SER (in), 2 A (in), 3 B (in), 4 C (in), 5 D (in), 6 CLK INH (in), 7 CLK (in), 8 GND (power), 9 ~{CLR} (in), 10 E (in), 11 F (in), 12 G (in), 13 QH (out), 14 H (in), 15 SH/~{LD} (in), 16 VCC (power)

## SN54LS173AJ
designator U?
4-Bit D-type Registers with 3-State Outputs, J0016A, TUBE; Generic Part Number: SN54LS173A; Manufacturer: Texas Instruments; PartNumber: SN54LS173AJ; VCC(Min)(V): 4.75; VCC(Max)(V): 5.25; Output Type: TTL; Output: 3S; ICC @ Nom Voltage(Max)(mA): 24; Bits(#): 4; F @ Nom Voltage(Max)(Mhz): 35; Rating: Military; Technology Family: LS; Schmitt Trigger: No; Output Drive (IOL/IOH)(Max)(mA): 24/-2.6; Output Logic: Non-inverted; 3-State Output: Yes; tpd @ Nom Voltage(Max)(ns): 30; DatasheetVersion: SDLS067A; PackageReference: J0016A; Input Type: TTL; Operating Temperature Range(C): -55 to 125; ComponentLink1Description: Manufacturer URL; ComponentLink1URL: http://www.ti.com/; ComponentLink2Description: Datasheet; ComponentLink2URL: http://www.ti.com/lit/ds/symlink/sn54ls173a.pdf; ComponentLink3Description: Package Specification; ComponentLink3URL: http://www.ti.com/lit/ml/mcer002d/mcer002d.pdf
footprint J0016A (DIP, 16-Leads, Body 21.35x7.2mm, Pitch 2.54mm)
part A pins: 1 M (in), 2 N (in), 3 1Q (hiz), 4 2Q (hiz), 5 3Q (hiz), 6 4Q (hiz), 7 CLK (in), 9 G1 (in), 10 G2 (in), 11 4D (in), 12 3D (in), 13 2D (in), 14 1D (in), 15 CLR (in)
part B pins: 8 GND (power), 16 VCC (power)

## SN54LS174J
designator U?
Hex D-type Flip-Flops With Clear, J0016A, TUBE; Generic Part Number: SN54LS174; Manufacturer: Texas Instruments; PartNumber: SN54LS174J; VCC(Min)(V): 4.75; VCC(Max)(V): 5.25; Output Type: TTL; Output: 2S; ICC @ Nom Voltage(Max)(mA): 26; Bits(#): 6; F @ Nom Voltage(Max)(Mhz): 35; Rating: Military; Technology Family: LS; Schmitt Trigger: No; Output Drive (IOL/IOH)(Max)(mA): 8/-0.4; Output Logic: Inverted,Non-inverted; tpd @ Nom Voltage(Max)(ns): 30; DatasheetVersion: SDLS068A; PackageReference: J0016A; Input Type: TTL; Operating Temperature Range(C): -55 to 125; 3-State Output: No; ComponentLink1Description: Manufacturer URL; ComponentLink1URL: http://www.ti.com/; ComponentLink2Description: Datasheet; ComponentLink2URL: http://www.ti.com/lit/ds/symlink/sn54ls174.pdf; ComponentLink3Description: Package Specification; ComponentLink3URL: http://www.ti.com/lit/ml/mcer002d/mcer002d.pdf
footprint J0016A (DIP, 16-Leads, Body 21.35x7.2mm, Pitch 2.54mm)
part A pins: 1 CLR (in), 2 1Q (out), 3 1D (in), 4 2D (in), 5 2Q (out), 6 3D (in), 7 3Q (out), 9 CLK (in), 10 4Q (out), 11 4D (in), 12 5Q (out), 13 5D (in), 14 6D (in), 15 6Q (out)
part B pins: 8 GND (power), 16 VCC (power)

## SN54LS175J
designator U?
Quadruple D-type Flip-Flops With Clear, J0016A, TUBE; Generic Part Number: SN54LS175; Manufacturer: Texas Instruments; PartNumber: SN54LS175J; VCC(Min)(V): 4.75; VCC(Max)(V): 5.25; Output Type: TTL; Output: 2S; ICC @ Nom Voltage(Max)(mA): 18; Bits(#): 4; F @ Nom Voltage(Max)(Mhz): 35; Rating: Military; Technology Family: LS; Schmitt Trigger: No; Output Drive (IOL/IOH)(Max)(mA): 8/-0.4; Output Logic: Inverted,Non-inverted; tpd @ Nom Voltage(Max)(ns): 25; DatasheetVersion: SDLS068A; PackageReference: J0016A; Input Type: TTL; Operating Temperature Range(C): -55 to 125; 3-State Output: No; ComponentLink1Description: Manufacturer URL; ComponentLink1URL: http://www.ti.com/; ComponentLink2Description: Datasheet; ComponentLink2URL: http://www.ti.com/lit/ds/symlink/sn54ls175.pdf; ComponentLink3Description: Package Specification; ComponentLink3URL: http://www.ti.com/lit/ml/mcer002d/mcer002d.pdf
footprint J0016A (DIP, 16-Leads, Body 21.35x7.2mm, Pitch 2.54mm)
part A pins: 1 CLR (in), 2 1Q (out), 3 1Q (out), 4 1D (in), 5 2D (in), 6 2Q (out), 7 2Q (out), 9 CLK (in), 10 3Q (out), 11 3Q (out), 12 3D (in), 13 4D (in), 14 4Q (out), 15 4Q (out)
part B pins: 8 GND (power), 16 VCC (power)

## SN54LS194AJ
designator U?
4-Bit Bidirectional Universal Shift Registers, J0016A, TUBE; Generic Part Number: SN54LS194A; Manufacturer: Texas Instruments; PartNumber: SN54LS194AJ; Technology Family: LS; VCC(Min)(V): 4.75; VCC(Max)(V): 5.25; Voltage(Nom)(V): 5; F @ Nom Voltage(Max)(Mhz): 35; ICC @ Nom Voltage(Max)(mA): 23; tpd @ Nom Voltage(Max)(ns): 26; Output Drive (IOL/IOH)(Max)(mA): 8/-0.4; Input Type: TTL; 3-State Output: No; Rating: Military; DatasheetVersion: SDLS075; PackageReference: J0016A; Output Type: TTL; Operating Temperature Range(C): -55 to 125; ComponentLink1Description: Manufacturer URL; ComponentLink1URL: http://www.ti.com/; ComponentLink2Description: Datasheet; ComponentLink2URL: http://www.ti.com/lit/ds/symlink/sn54ls194a.pdf; ComponentLink3Description: Package Specification; ComponentLink3URL: http://www.ti.com/lit/ml/mcer002d/mcer002d.pdf
footprint J0016A (DIP, 16-Leads, Body 21.35x7.2mm, Pitch 2.54mm)
pins: 1 ~{CLR} (in), 2 SR SER (in), 3 A (in), 4 B (in), 5 C (in), 6 D (in), 7 SL SER (in), 8 GND (power), 9 S0 (in), 10 S1 (in), 11 CLK (in), 12 QD (out), 13 QC (out), 14 QB (out), 15 QA (out), 16 VCC (power)

## SN54LS195AJ
designator U?
4-Bit Parallel-Access Shift Registers, J0016A, TUBE; Generic Part Number: SN54LS195A; Manufacturer: Texas Instruments; PartNumber: SN54LS195AJ; Technology Family: LS; VCC(Min)(V): 4.5; VCC(Max)(V): 5.5; Input Type: TTL; Rating: Military; DatasheetVersion: SDLS076; PackageReference: J0016A; Output Type: TTL; Operating Temperature Range(C): -55 to 125; ComponentLink1Description: Manufacturer URL; ComponentLink1URL: http://www.ti.com/; ComponentLink2Description: Datasheet; ComponentLink2URL: http://www.ti.com/lit/ds/symlink/sn54ls195a.pdf; ComponentLink3Description: Package Specification; ComponentLink3URL: http://www.ti.com/lit/ml/mcer002d/mcer002d.pdf
footprint J0016A (DIP, 16-Leads, Body 21.35x7.2mm, Pitch 2.54mm)
pins: 1 ~{CLR} (in), 2 J (in), 3 ~{K} (in), 4 A (in), 5 B (in), 6 C (in), 7 D (in), 8 GND (power), 9 SH/~{LD} (in), 10 CLK (in), 11 ~{Q}D (out), 12 QD (out), 13 QC (out), 14 QB (out), 15 QA (out), 16 VCC (power)

## SN54LS273J
designator U?
Octal D-type Flip-Flop With Clear, J0020A, TUBE; Generic Part Number: SN54LS273; Manufacturer: Texas Instruments; PartNumber: SN54LS273J; VCC(Min)(V): 4.75; VCC(Max)(V): 5.25; Output Type: TTL; Output: 2S; ICC @ Nom Voltage(Max)(mA): 27; Bits(#): 8; F @ Nom Voltage(Max)(Mhz): 35; Rating: Military; Technology Family: LS; Schmitt Trigger: No; Output Drive (IOL/IOH)(Max)(mA): 8/-0.4; Output Logic: Non-inverted; DatasheetVersion: SDLS090; PackageReference: J0020A; Input Type: TTL; Operating Temperature Range(C): -55 to 125; 3-State Output: No; tpd @ Nom Voltage(Max)(ns): 27; ComponentLink1Description: Manufacturer URL; ComponentLink1URL: http://www.ti.com/; ComponentLink2Description: Datasheet; ComponentLink2URL: http://www.ti.com/lit/ds/symlink/sn54ls273.pdf; ComponentLink3Description: Package Specification; ComponentLink3URL: http://www.ti.com/lit/ml/mcer002d/mcer002d.pdf
footprint J0020A (DIP, 20-Leads, Body 26.9x7.2mm, Pitch 2.54mm)
part A pins: 1 CLR (in) "Clear Pin", 2 1Q (out) "1Q Output", 3 1D (in) "1D Input", 4 2D (in) "2D Input", 5 2Q (out) "2Q Output", 6 3Q (out) "3Q Output", 7 3D (in) "3D Input", 8 4D (in) "4D Input", 9 4Q (out) "4Q Output", 11 CLK (in) "Clock Pin", 12 5Q (out) "5Q Output", 13 5D (in) "5D Input", 14 6D (in) "6D Input", 15 6Q (out) "6Q Output", 16 7Q (out) "7Q Output", 17 7D (in) "7D Input", 18 8D (in) "8D Input", 19 8Q (out) "8Q Output"
part B pins: 10 GND (power) "Ground Pin", 20 VCC (power) "Power Pin"

## SN54LS299J
designator U?
8-Bit Universal Shift/Storage Registers, J0020A, TUBE; Generic Part Number: SN54LS299; Manufacturer: Texas Instruments; PartNumber: SN54LS299J; Technology Family: LS; VCC(Min)(V): 4.75; VCC(Max)(V): 5.25; Voltage(Nom)(V): 5; F @ Nom Voltage(Max)(Mhz): 35; ICC @ Nom Voltage(Max)(mA): 53; tpd @ Nom Voltage(Max)(ns): 39; Output Drive (IOL/IOH)(Max)(mA): 24/-2.6; Input Type: TTL; 3-State Output: Yes; Rating: Military; DatasheetVersion: SDLS156; PackageReference: J0020A; Output Type: TTL; Operating Temperature Range(C): -55 to 125; ComponentLink1Description: Manufacturer URL; ComponentLink1URL: http://www.ti.com/; ComponentLink2Description: Datasheet; ComponentLink2URL: http://www.ti.com/lit/ds/symlink/sn54ls299.pdf; ComponentLink3Description: Package Specification; ComponentLink3URL: http://www.ti.com/lit/ml/mcer002d/mcer002d.pdf
footprint J0020A (DIP, 20-Leads, Body 26.9x7.2mm, Pitch 2.54mm)
pins: 1 S0 (in), 2 ~{G}1 (in), 3 ~{G}2 (in), 4 G/QG (io), 5 E/QE (io), 6 C/QC (io), 7 A/QA (io), 8 QA' (out), 9 ~{CLR} (in), 10 GND (power), 11 SR (in), 12 CLK (in), 13 B/QB (io), 14 D/QD (io), 15 F/QF (io), 16 H/QH (io), 17 QH' (out), 18 SL (in), 19 S1 (in), 20 VCC (power)

## SN54LS323J
designator U?
8-Bit Universal Shift/Storage Registers, J0020A, TUBE; Generic Part Number: SN54LS323; Manufacturer: Texas Instruments; PartNumber: SN54LS323J; Technology Family: LS; VCC(Min)(V): 4.5; VCC(Max)(V): 5.5; Input Type: TTL; Rating: Military; DatasheetVersion: SDLS160; PackageReference: J0020A; Output Type: TTL; Operating Temperature Range(C): -55 to 125; ComponentLink1Description: Manufacturer URL; ComponentLink1URL: http://www.ti.com/; ComponentLink2Description: Datasheet; ComponentLink2URL: http://www.ti.com/lit/ds/symlink/sn54ls323.pdf; ComponentLink3Description: Package Specification; ComponentLink3URL: http://www.ti.com/lit/ml/mcer002d/mcer002d.pdf
footprint J0020A (DIP, 20-Leads, Body 26.9x7.2mm, Pitch 2.54mm)
pins: 1 S0 (in), 2 ~{G}1 (in), 3 ~{G}2 (in), 4 G/QG (io), 5 E/QE (io), 6 C/QC (io), 7 A/QA (io), 8 QA' (out), 9 ~{CLR} (in), 10 GND (power), 11 SR (in), 12 CLK (in), 13 B/QB (io), 14 D/QD (io), 15 F/QF (io), 16 H/QH (io), 17 QH' (out), 18 SL (in), 19 S1 (in), 20 VCC (power)

## SN54LS373J
designator U?
Octal D-Type Transparent Latches with 3-state Outputs, J0020A, TUBE; Generic Part Number: SN54LS373; Manufacturer: Texas Instruments; PartNumber: SN54LS373J; VCC(Min)(V): 4.75; VCC(Max)(V): 5.25; Output Type: TTL; Logic: True; ICC @ Nom Voltage(Max)(mA): 40; Bits(#): 8; F @ Nom Voltage(Max)(Mhz): 35; Rating: Military; Technology Family: LS; Schmitt Trigger: No; Output Drive (IOL/IOH)(Max)(mA): 24/-2.6; Output Logic: Non-inverted; 3-State Output: Yes; tpd @ Nom Voltage(Max)(ns): 18; DatasheetVersion: SDLS165B; PackageReference: J0020A; Input Type: TTL; Operating Temperature Range(C): -55 to 125; ComponentLink1Description: Manufacturer URL; ComponentLink1URL: http://www.ti.com/; ComponentLink2Description: Datasheet; ComponentLink2URL: http://www.ti.com/lit/ds/symlink/sn54ls373.pdf; ComponentLink3Description: Package Specification; ComponentLink3URL: http://www.ti.com/lit/ml/mcer002d/mcer002d.pdf
footprint J0020A (DIP, 20-Leads, Body 26.9x7.2mm, Pitch 2.54mm)
pins: 1 ~{OC} (in), 2 1Q (hiz), 3 1D (in), 4 2D (in), 5 2Q (hiz), 6 3Q (hiz), 7 3D (in), 8 4D (in), 9 4Q (hiz), 10 GND (power), 11 C (in), 12 5Q (hiz), 13 5D (in), 14 6D (in), 15 6Q (hiz), 16 7Q (hiz), 17 7D (in), 18 8D (in), 19 8Q (hiz), 20 VCC (power)

## SN54LS374J
designator U?
Octal D-Type Edge Triggered Flip-Flops with 3-State Outputs, J0020A, TUBE; Generic Part Number: SN54LS374; Manufacturer: Texas Instruments; PartNumber: SN54LS374J; VCC(Min)(V): 4.75; VCC(Max)(V): 5.25; Output Type: TTL; ICC @ Nom Voltage(Max)(mA): 40; Bits(#): 8; F @ Nom Voltage(Max)(Mhz): 35; Rating: Military; Technology Family: LS; Schmitt Trigger: No; Output Drive (IOL/IOH)(Max)(mA): 24/-2.6; Output Logic: Non-inverted; 3-State Output: Yes; tpd @ Nom Voltage(Max)(ns): 28; DatasheetVersion: SDLS165B; PackageReference: J0020A; Supplier 1: Newark; Supplier Part Number 1: 11J4325; Input Type: TTL; Operating Temperature Range(C): -55 to 125; ComponentLink1Description: Manufacturer URL; ComponentLink1URL: http://www.ti.com/; ComponentLink2Description: Datasheet; ComponentLink2URL: http://www.ti.com/lit/ds/symlink/sn54ls374.pdf; ComponentLink3Description: Package Specification; ComponentLink3URL: http://www.ti.com/lit/ml/mcer002d/mcer002d.pdf
footprint J0020A (DIP, 20-Leads, Body 26.9x7.2mm, Pitch 2.54mm)
part A pins: 1 OC (in), 2 1Q (hiz), 3 1D (in), 4 2D (in), 5 2Q (hiz), 6 3Q (hiz), 7 3D (in), 8 4D (in), 9 4Q (hiz), 11 CLK (in), 12 5Q (hiz), 13 5D (in), 14 6D (in), 15 6Q (hiz), 16 7Q (hiz), 17 7D (in), 18 8D (in), 19 8Q (hiz)
part B pins: 10 GND (power), 20 VCC (power)

## SN54LS377J
designator U?
Octal D-type Flip-Flops With Enable, J0020A, TUBE; Generic Part Number: SN54LS377; Manufacturer: Texas Instruments; PartNumber: SN54LS377J; VCC(Min)(V): 4.75; VCC(Max)(V): 5.25; Output Type: TTL; Output: 2S; ICC @ Nom Voltage(Max)(mA): 28; Bits(#): 8; F @ Nom Voltage(Max)(Mhz): 35; Rating: Military; Technology Family: LS; Schmitt Trigger: No; Output Drive (IOL/IOH)(Max)(mA): 8/-0.4; Output Logic: Inverted,Non-inverted; tpd @ Nom Voltage(Max)(ns): 27; DatasheetVersion: SDLS167; PackageReference: J0020A; Input Type: TTL; Operating Temperature Range(C): -55 to 125; 3-State Output: No; ComponentLink1Description: Manufacturer URL; ComponentLink1URL: http://www.ti.com/; ComponentLink2Description: Datasheet; ComponentLink2URL: http://www.ti.com/lit/ds/symlink/sn54ls377.pdf; ComponentLink3Description: Package Specification; ComponentLink3URL: http://www.ti.com/lit/ml/mcer002d/mcer002d.pdf
footprint J0020A (DIP, 20-Leads, Body 26.9x7.2mm, Pitch 2.54mm)
part A pins: 1 G (in), 2 1Q (out), 3 1D (in), 4 2D (in), 5 2Q (out), 6 3Q (out), 7 3D (in), 8 4D (in), 9 4Q (out), 11 CLK (in), 12 5Q (out), 13 5D (in), 14 6D (in), 15 6Q (out), 16 7Q (out), 17 7D (in), 18 8D (in), 19 8Q (out)
part B pins: 10 GND (power), 20 VCC (power)

## SN54LS378J
designator U?
Hex D-type Flip-Flops With Enable, J0016A, TUBE; Generic Part Number: SN54LS378; Manufacturer: Texas Instruments; PartNumber: SN54LS378J; VCC(Min)(V): 4.75; VCC(Max)(V): 5.25; Output Type: TTL; Output: 2S; ICC @ Nom Voltage(Max)(mA): 22; Bits(#): 6; F @ Nom Voltage(Max)(Mhz): 35; Rating: Military; Technology Family: LS; Schmitt Trigger: No; Output Drive (IOL/IOH)(Max)(mA): 8/-0.4; Output Logic: Inverted,Non-inverted; tpd @ Nom Voltage(Max)(ns): 27; DatasheetVersion: SDLS167; PackageReference: J0016A; Input Type: TTL; Operating Temperature Range(C): -55 to 125; 3-State Output: No; ComponentLink1Description: Manufacturer URL; ComponentLink1URL: http://www.ti.com/; ComponentLink2Description: Datasheet; ComponentLink2URL: http://www.ti.com/lit/ds/symlink/sn54ls378.pdf; ComponentLink3Description: Package Specification; ComponentLink3URL: http://www.ti.com/lit/ml/mcer002d/mcer002d.pdf
footprint J0016A (DIP, 16-Leads, Body 21.35x7.2mm, Pitch 2.54mm)
part A pins: 1 G (in), 2 1Q (out), 3 1D (in), 4 2D (in), 5 2Q (out), 6 3D (in), 7 3Q (out), 9 CLK (in), 10 4Q (out), 11 4D (in), 12 5Q (out), 13 5D (in), 14 6D (in), 15 6Q (out)
part B pins: 8 GND (power), 16 VCC (power)

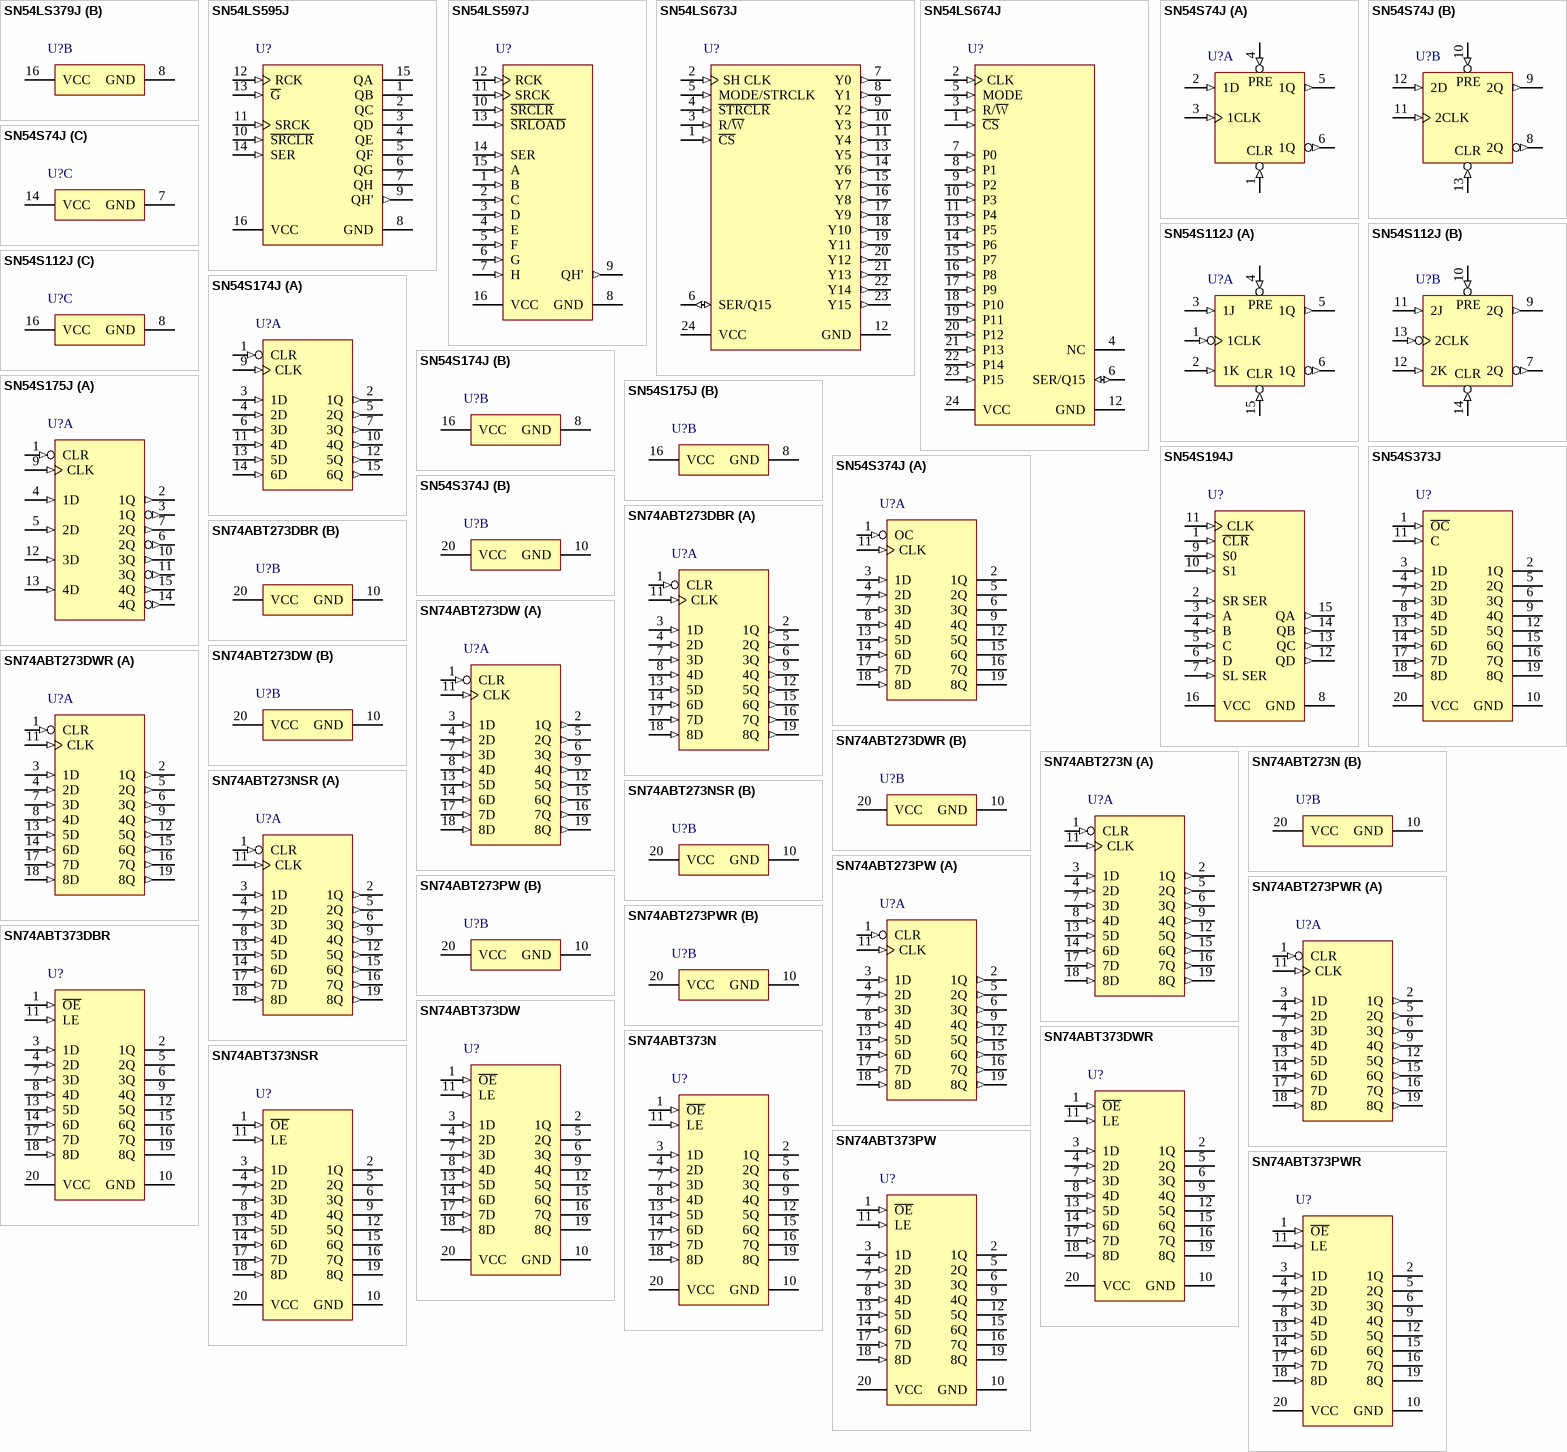
[diagram p39: symbols SN54LS379J to SN74ABT373PWR]

## SN54LS379J
designator U?
Quad D-type Flip-Flops With Enable, J0016A, TUBE; Generic Part Number: SN54LS379; Manufacturer: Texas Instruments; PartNumber: SN54LS379J; VCC(Min)(V): 4.5; VCC(Max)(V): 5.5; Output Type: TTL; Output: 2S; Bits(#): 4; Rating: Military; Technology Family: LS; Schmitt Trigger: No; DatasheetVersion: SDLS167; PackageReference: J0016A; Input Type: TTL; Operating Temperature Range(C): -55 to 125; ComponentLink1Description: Manufacturer URL; ComponentLink1URL: http://www.ti.com/; ComponentLink2Description: Datasheet; ComponentLink2URL: http://www.ti.com/lit/ds/symlink/sn54ls379.pdf; ComponentLink3Description: Package Specification; ComponentLink3URL: http://www.ti.com/lit/ml/mcer002d/mcer002d.pdf
footprint J0016A (DIP, 16-Leads, Body 21.35x7.2mm, Pitch 2.54mm)
part A pins: 1 G (in), 2 1Q (out), 3 1Q (out), 4 1D (in), 5 2D (in), 6 2Q (out), 7 2Q (out), 9 CLK (in), 10 3Q (out), 11 3Q (out), 12 3D (in), 13 4D (in), 14 4Q (out), 15 4Q (out)
part B pins: 8 GND (power), 16 VCC (power)

## SN54LS595J
designator U?
8-Bit Shift Registers With Output Latches, J0016A, TUBE; Generic Part Number: SN54LS595; Manufacturer: Texas Instruments; PartNumber: SN54LS595J; Technology Family: LS; VCC(Min)(V): 4.75; VCC(Max)(V): 5.25; Voltage(Nom)(V): 5; F @ Nom Voltage(Max)(Mhz): 35; ICC @ Nom Voltage(Max)(mA): 65; tpd @ Nom Voltage(Max)(ns): 25; Output Drive (IOL/IOH)(Max)(mA): 24/-2.6; Input Type: TTL; 3-State Output: Yes; Rating: Military; DatasheetVersion: SDLS006; PackageReference: J0016A; Output Type: TTL; Operating Temperature Range(C): -55 to 125; ComponentLink1Description: Manufacturer URL; ComponentLink1URL: http://www.ti.com/; ComponentLink2Description: Datasheet; ComponentLink2URL: http://www.ti.com/lit/ds/symlink/sn54ls595.pdf; ComponentLink3Description: Package Specification; ComponentLink3URL: http://www.ti.com/lit/ml/mcer002d/mcer002d.pdf
footprint J0016A (DIP, 16-Leads, Body 21.35x7.2mm, Pitch 2.54mm)
pins: 1 QB (hiz), 2 QC (hiz), 3 QD (hiz), 4 QE (hiz), 5 QF (hiz), 6 QG (hiz), 7 QH (hiz), 8 GND (power), 9 QH' (out), 10 ~{SRCLR} (in), 11 SRCK (in), 12 RCK (in), 13 ~{G} (in), 14 SER (in), 15 QA (hiz), 16 VCC (power)

## SN54LS597J
designator U?
8-Bit Shift Registers With Input Latches, J0016A, TUBE; Generic Part Number: SN54LS597; Manufacturer: Texas Instruments; PartNumber: SN54LS597J; Technology Family: LS; VCC(Min)(V): 4.75; VCC(Max)(V): 5.25; Voltage(Nom)(V): 5; F @ Nom Voltage(Max)(Mhz): 35; ICC @ Nom Voltage(Max)(mA): 53; tpd @ Nom Voltage(Max)(ns): 30; Output Drive (IOL/IOH)(Max)(mA): 24/-2.6; Input Type: TTL; 3-State Output: No; Rating: Military; DatasheetVersion: SDLS007; PackageReference: J0016A; Output Type: TTL; Operating Temperature Range(C): -55 to 125; ComponentLink1Description: Manufacturer URL; ComponentLink1URL: http://www.ti.com/; ComponentLink2Description: Datasheet; ComponentLink2URL: http://www.ti.com/lit/ds/symlink/sn54ls597.pdf; ComponentLink3Description: Package Specification; ComponentLink3URL: http://www.ti.com/lit/ml/mcer002d/mcer002d.pdf
footprint J0016A (DIP, 16-Leads, Body 21.35x7.2mm, Pitch 2.54mm)
pins: 1 B (in), 2 C (in), 3 D (in), 4 E (in), 5 F (in), 6 G (in), 7 H (in), 8 GND (power), 9 QH' (out), 10 ~{SRCLR} (in), 11 SRCK (in), 12 RCK (in), 13 ~{SRLOAD} (in), 14 SER (in), 15 A (in), 16 VCC (power)

## SN54LS673J
designator U?
16-Bit Shift Registers, J0024A, TUBE; Generic Part Number: SN54LS673; Manufacturer: Texas Instruments; PartNumber: SN54LS673J; Technology Family: LS; VCC(Min)(V): 4.75; VCC(Max)(V): 5.25; Voltage(Nom)(V): 5; F @ Nom Voltage(Max)(Mhz): 35; ICC @ Nom Voltage(Max)(mA): 80; tpd @ Nom Voltage(Max)(ns): 40; Output Drive (IOL/IOH)(Max)(mA): 24/-2.6; Input Type: TTL; 3-State Output: No; Rating: Military; Bits: 8; DatasheetVersion: SDLS195; PackageReference: J0024A; Output Type: TTL; Operating Temperature Range(C): -55 to 125; ComponentLink1Description: Manufacturer URL; ComponentLink1URL: http://www.ti.com/; ComponentLink2Description: Datasheet; ComponentLink2URL: http://www.ti.com/lit/ds/symlink/sn54ls673.pdf; ComponentLink3Description: Package Specification; ComponentLink3URL: http://www.ti.com/lit/ml/mcer002d/mcer002d.pdf
footprint J0024A (DIP, 24-Leads, Body 32.15x14.85mm, Pitch 2.54mm)
pins: 1 ~{CS} (in), 2 SH CLK (in), 3 R/~{W} (in), 4 ~{STRCLR} (in), 5 MODE/STRCLK (in), 6 SER/Q15 (io), 7 Y0 (out), 8 Y1 (out), 9 Y2 (out), 10 Y3 (out), 11 Y4 (out), 12 GND (power), 13 Y5 (out), 14 Y6 (out), 15 Y7 (out), 16 Y8 (out), 17 Y9 (out), 18 Y10 (out), 19 Y11 (out), 20 Y12 (out), 21 Y13 (out), 22 Y14 (out), 23 Y15 (out), 24 VCC (power)

## SN54LS674J
designator U?
16-Bit Shift Registers, J0024A, TUBE; Generic Part Number: SN54LS674; Manufacturer: Texas Instruments; PartNumber: SN54LS674J; Technology Family: LS; VCC(Min)(V): 4.75; VCC(Max)(V): 5.25; Voltage(Nom)(V): 5; F @ Nom Voltage(Max)(Mhz): 35; ICC @ Nom Voltage(Max)(mA): 40; Output Drive (IOL/IOH)(Max)(mA): 24/-2.6; Input Type: TTL; 3-State Output: No; Rating: Military; Bits: 8; DatasheetVersion: SDLS195; PackageReference: J0024A; tpd @ Nom Voltage(Max)(ns): 40; Output Type: TTL; Operating Temperature Range(C): -55 to 125; ComponentLink1Description: Manufacturer URL; ComponentLink1URL: http://www.ti.com/; ComponentLink2Description: Datasheet; ComponentLink2URL: http://www.ti.com/lit/ds/symlink/sn54ls674.pdf; ComponentLink3Description: Package Specification; ComponentLink3URL: http://www.ti.com/lit/ml/mcer002d/mcer002d.pdf
footprint J0024A (DIP, 24-Leads, Body 32.15x14.85mm, Pitch 2.54mm)
pins: 1 ~{CS} (in), 2 CLK (in), 3 R/~{W} (in), 4 NC, 5 MODE (in), 6 SER/Q15 (io), 7 P0 (in), 8 P1 (in), 9 P2 (in), 10 P3 (in), 11 P4 (in), 12 GND (power), 13 P5 (in), 14 P6 (in), 15 P7 (in), 16 P8 (in), 17 P9 (in), 18 P10 (in), 19 P11 (in), 20 P12 (in), 21 P13 (in), 22 P14 (in), 23 P15 (in), 24 VCC (power)

## SN54S74J
designator U?
Dual D-type Positive-Edge-Triggered Flip-Flops With Preset And C, J0014A, TUBE; Generic Part Number: SN54S74; Manufacturer: Texas Instruments; PartNumber: SN54S74J; VCC(Min)(V): 4.75; VCC(Max)(V): 5.25; Output Type: TTL; Output: 3S; ICC @ Nom Voltage(Max)(mA): 25; Bits(#): 2; F @ Nom Voltage(Max)(Mhz): 50; Rating: Military; Technology Family: S; Schmitt Trigger: No; Output Drive (IOL/IOH)(Max)(mA): 20/-1; Output Logic: Inverted,Non-inverted; DatasheetVersion: SDLS119; PackageReference: J0014A; Input Type: TTL; Operating Temperature Range(C): -55 to 125; 3-State Output: No; ComponentLink1Description: Manufacturer URL; ComponentLink1URL: http://www.ti.com/; ComponentLink2Description: Datasheet; ComponentLink2URL: http://www.ti.com/lit/ds/symlink/sn54s74.pdf; ComponentLink3Description: Package Specification; ComponentLink3URL: http://www.ti.com/lit/ml/mcer002d/mcer002d.pdf
footprint J0014A (DIP, 14-Leads, Body 19.95x7.2mm, Pitch 2.54mm)
part A pins: 1 1~{CLR} (in), 2 1D (in), 3 1CLK (in), 4 1~{PRE} (in), 5 1Q (out), 6 1Q (out)
part B pins: 8 2Q (out), 9 2Q (out), 10 2~{PRE} (in), 11 2CLK (in), 12 2D (in), 13 2~{CLR} (in)
part C pins: 7 GND (power), 14 VCC (power)
part A text: PRE; CLR
part B text: PRE; CLR